# Altium footprint library CR2032.PcbLib: 1 footprints
Each footprint in its own frame and in the unit in brackets; x right, y up, seen from the top. Pads: shape width x height; smd on the part's side, far side on the other; paste and mask are expansions set on the pad; w line width, h text height; cw(c..) or ccw(c..) is an arc to the next point about the centre after c.
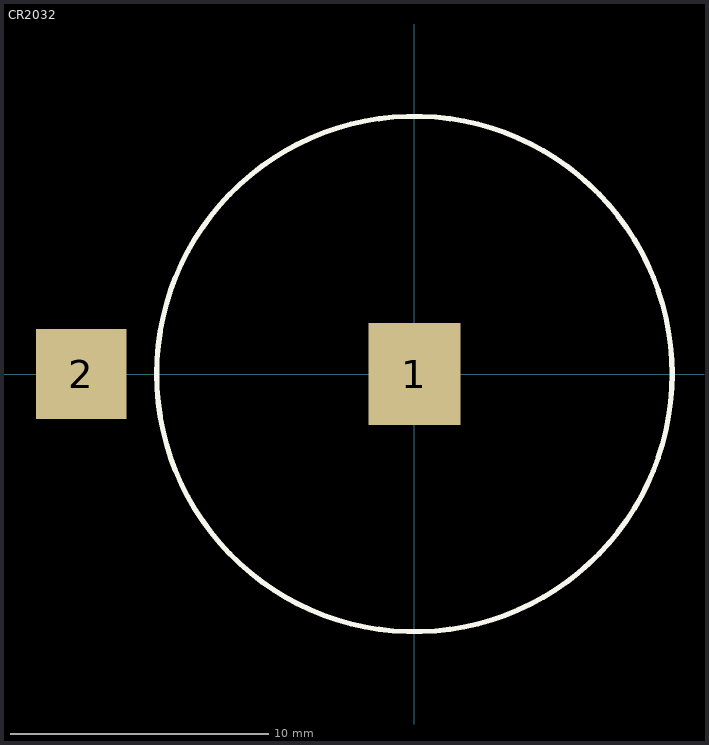
[diagram p0: the footprint, top view; thin cyan lines are the x and y axes]

## CR2032 [mm]
height 5
pads (2):
  rect 3.56x3.96 smd: 1(0,0)
  rect 3.51x3.51 smd: 2(-12.935,0)
Top Overlay:
  circle w0.2: c0,0 r10
Mechanical 13:
  circle w0.1: c0,0 r10
3D body: height 0.89, standoff 0.02, extent -1.98,-4.876 1.98,4.876
3D body: height 3.19, standoff 0.02, extent -14.632,-1.73 -9.322,1.78